# EAGLE library part DEC8251 (library dec-con)
BCD Decoder
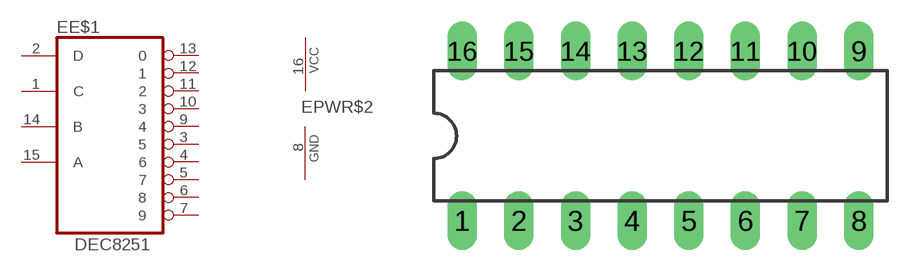
[diagram p30: symbol with the pads of DIL16; footprint DIL16]

Designator prefix E; gates E$1=DEC8251 PWR$2=PWRN

## DEC8251  [DIL16]
1  E$1:C  in
2  E$1:D  in
3  E$1:5  out
4  E$1:6  out
5  E$1:7  out
6  E$1:8  out
7  E$1:9  out
8  PWR$2:GND  pwr
9  E$1:4  out
10  E$1:3  out
11  E$1:2  out
12  E$1:1  out
13  E$1:0  out
14  E$1:B  in
15  E$1:A  in
16  PWR$2:VCC  pwr

## Footprint DIL16 (pad centres in mm)
Dual In Line Package
drill 0.813 long: 1 -8.89,-3.81; 2 -6.35,-3.81; 3 -3.81,-3.81; 4 -1.27,-3.81; 5 1.27,-3.81; 6 3.81,-3.81; 7 6.35,-3.81; 8 8.89,-3.81; 9 8.89,3.81; 10 6.35,3.81; 11 3.81,3.81; 12 1.27,3.81; 13 -1.27,3.81; 14 -3.81,3.81; 15 -6.35,3.81; 16 -8.89,3.81